# Altium integrated library MTSW-102-X-X-D-X.IntLib: 1 symbol
Pins are listed as number, name and electrical type; pins without a type are passive.

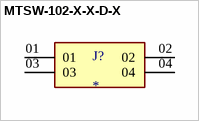
[diagram p0: symbol MTSW-102-X-X-D-X]

## MTSW-102-X-X-D-X
designator J?
MF: Samtec; MP: MTSW-102-X-X-D-X; Package: None; Price: None; Value: *; Availability: Unavailable
footprint SAMTEC_MTSW-102-X-X-D-X
pins: 01, 02, 03, 04